# EAGLE library part PHA-1X08*G (library mylib)
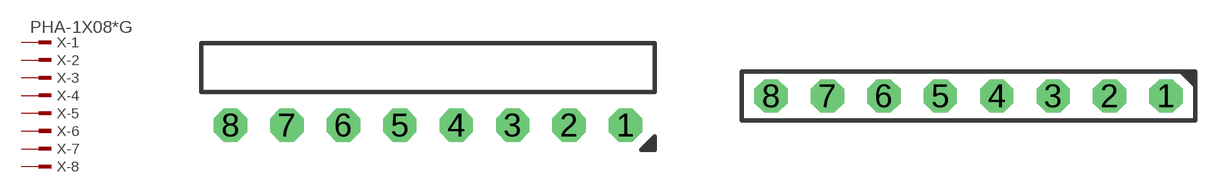
[diagram p117: symbol with the pads of PHA-1X08RG; footprints PHA-1X08RG, PHA-1X08SG]

Designator prefix X; gates -1=MPINV -2=MPIN -3=MPIN -4=MPIN -5=MPIN -6=MPIN -7=MPIN -8=MPIN

## PHA-1X08RG-R (AKIZUKI: C-06361)  [PHA-1X08RG]
1  -1:1  pas
2  -2:1  pas
3  -3:1  pas
4  -4:1  pas
5  -5:1  pas
6  -6:1  pas
7  -7:1  pas
8  -8:1  pas

## PHA-1X08SG (AKIZUKI: C-04394)  [PHA-1X08SG]
Pads as for PHA-1X08RG

## Footprint PHA-1X08RG (pad centres in mm)
drill 0.8 pad 1.5 octagon: 1 8.89,0; 2 6.35,0; 3 3.81,0; 4 1.27,0; 5 -1.27,0; 6 -3.81,0; 7 -6.35,0; 8 -8.89,0

## Footprint PHA-1X08SG (pad centres in mm)
drill 0.8 pad 1.5 octagon: 1 8.89,0; 2 6.35,0; 3 3.81,0; 4 1.27,0; 5 -1.27,0; 6 -3.81,0; 7 -6.35,0; 8 -8.89,0